# Altium integrated library SOLDER_JUMPER_1206.IntLib: 1 symbol
Pins are listed as number, name and electrical type; pins without a type are passive.

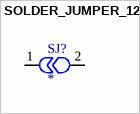
[diagram p0: symbol SOLDER_JUMPER_1206]

## SOLDER_JUMPER_1206
designator SJ?
MP: SOLDER_JUMPER_1206; Package: None; Price: None; Value: *; Availability: Unavailable
footprint JUMP_SOLDER_JUMPER_1206
pins: 1, 2